# Altium footprint library Transistor.PcbLib: 45 footprints (part 3 of 3)
Each footprint in its own frame and in the unit in brackets; x right, y up, seen from the top. Pads: shape width x height; smd on the part's side, far side on the other; paste and mask are expansions set on the pad; w line width, h text height; cw(c..) or ccw(c..) is an arc to the next point about the centre after c.
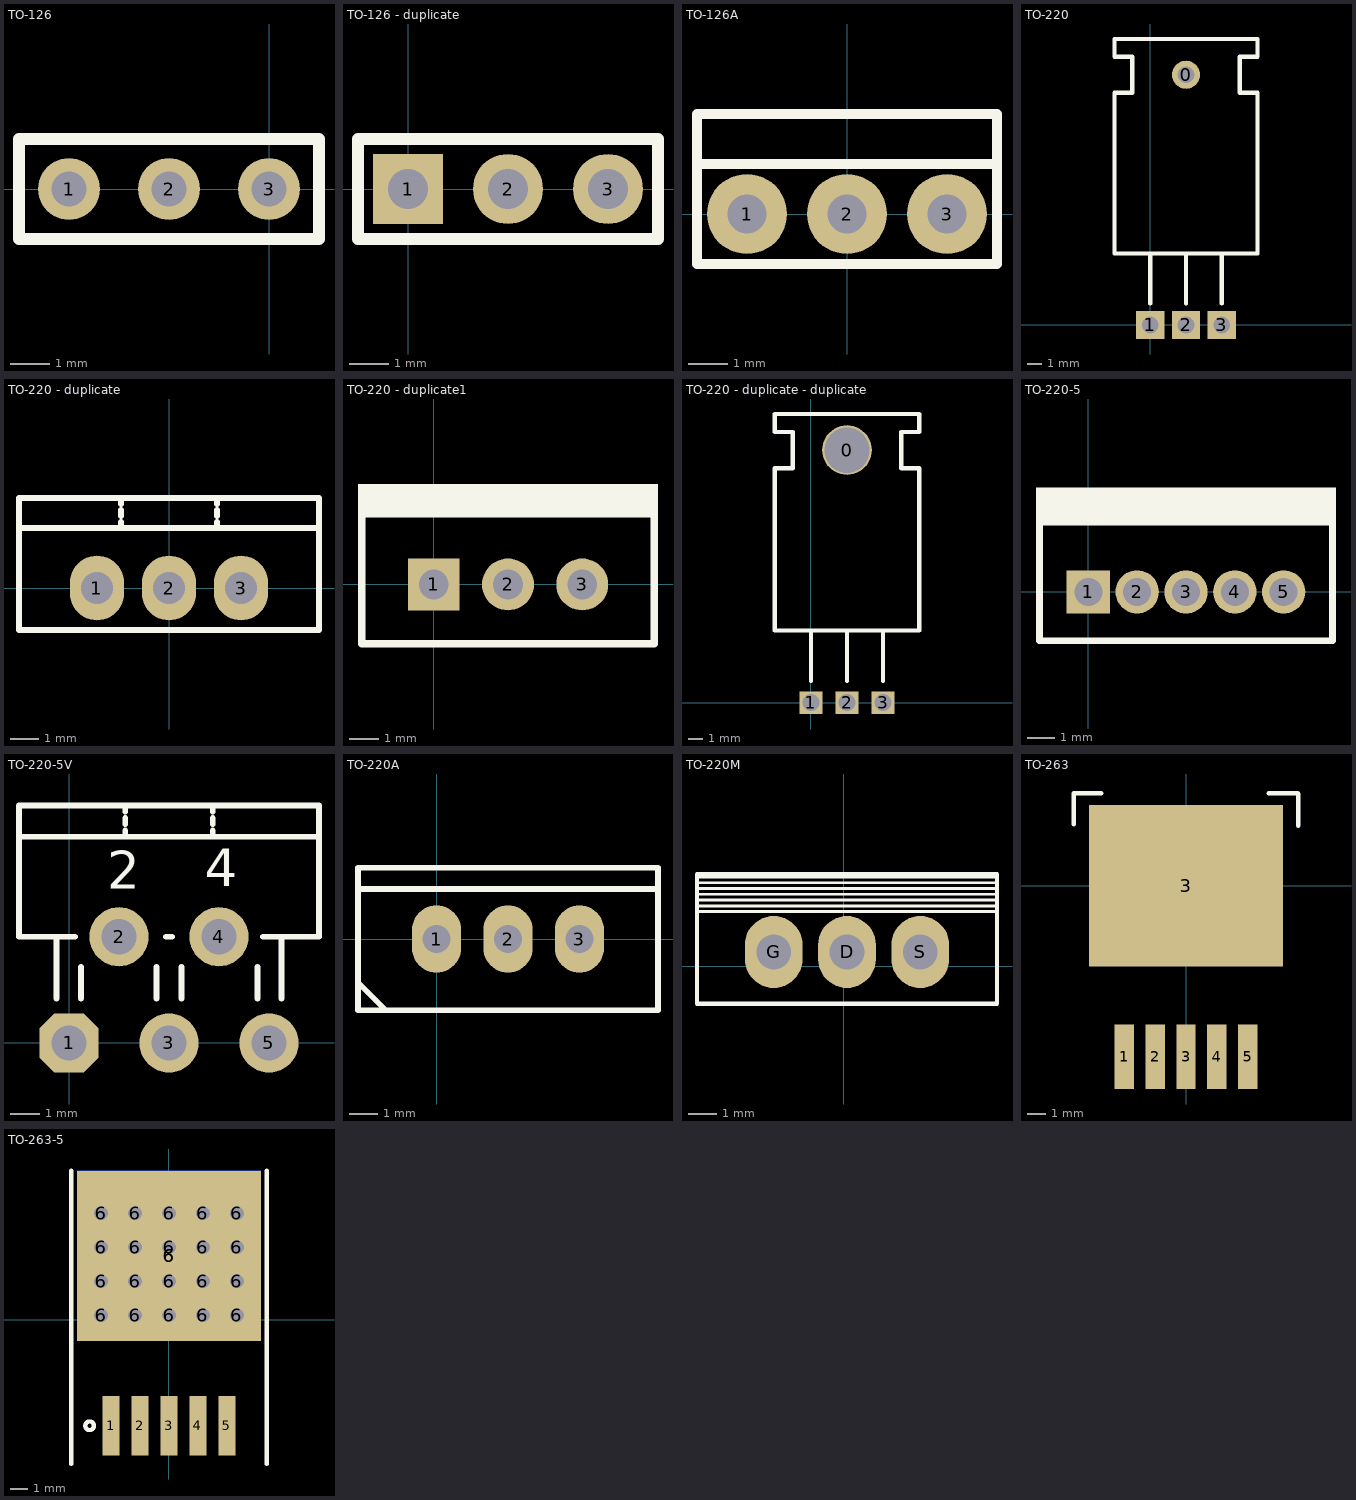
[diagram p2: the footprints below, top view; thin cyan lines are the x and y axes]

## TO-126 [mil]
pads (3):
  round 62 hole 35.43: 1(-200,0) 2(-100,0) 3(0,0)
Top Overlay:
  lines w12: -250,-50 -250,50 50,50 50,-50 -250,-50

## TO-126 - duplicate [mil]
pads (3):
  rect 70x70 hole 40: 1(0,0)
  round 70 hole 40: 2(100,0) 3(200,0)
Top Overlay:
  lines w12: -50,-50 250,-50 250,50 -50,50 -50,-50

## TO-126A [mil]
pads (3):
  round 80 hole 39: 1(-100,0) 2(0,0) 3(100,0)
Top Overlay:
  lines w10: 150,40 150,100 -150,100 -150,50 ; -150,50 150,50 150,-50 -150,-50 -150,50

## TO-220 [mm]
pads (4):
  round 2 hole 1.2: 0(2.54,17.78)
  rect 2x2 hole 1.2: 1(0,0) 2(2.54,0) 3(5.08,0)
Top Overlay:
  lines w0.305: 0,1.524 0,5.08 ; 2.54,1.524 2.54,5.08 ; 5.08,1.524 5.08,5.08 ; -2.54,5.08 -2.54,16.51 -1.27,16.51 -1.27,19.05 -2.54,19.05 -2.54,20.32 7.62,20.32 7.62,19.05 6.35,19.05 6.35,16.51 7.62,16.51 7.62,5.08 -2.54,5.08

## TO-220 - duplicate [mil]
pads (3):
  oval 75x90 hole 45: 1(-100,0) 2(0,0) 3(100,0)
Top Overlay:
  lines w7.87: -66.67,83.33 -66.67,91.67 ; -66.67,100 -66.67,108.33 ; -66.67,116.67 -66.67,125 ; 66.67,83.33 66.67,91.67 ; 66.67,100 66.67,108.33 ; 66.67,116.67 66.67,125 ; -208.33,83.33 -208.33,125 208.33,125 208.33,83.33 ; -208.33,83.33 -208.33,-58.33 208.33,-58.33 208.33,83.33 ; -208.33,83.33 208.33,83.33

## TO-220 - duplicate1 [mil]
pads (3):
  rect 70x70 hole 40: 1(0,0)
  round 70 hole 40: 2(100,0) 3(200,0)
Top Overlay:
  rectangle: -102,95 302,135
  lines w10: -97,-80 297,-80 297,95 -97,95 -97,-80

## TO-220 - duplicate - duplicate [mm]
pads (4):
  round 3.5 hole 3.2: 0(2.54,17.78)
  rect 1.6x1.6 hole 1.2: 1(0,0) 2(2.54,0) 3(5.08,0)
Top Overlay:
  lines w0.305: 0,1.524 0,5.08 ; 2.54,1.524 2.54,5.08 ; 5.08,1.524 5.08,5.08 ; -2.54,5.08 -2.54,16.51 -1.27,16.51 -1.27,19.05 -2.54,19.05 -2.54,20.32 7.62,20.32 7.62,19.05 6.35,19.05 6.35,16.51 7.62,16.51 7.62,5.08 -2.54,5.08

## TO-220-5 [mil]
pads (5):
  rect 62x62 hole 40: 1(0,0)
  round 62 hole 40: 2(70,0) 3(140,0) 4(210,0) 5(280,0)
Top Overlay:
  rectangle: -75,100 355,150
  lines w10: -70,-70 -70,100 350,100 350,-70 -70,-70

## TO-220-5V [mm]
pads (5):
  oct 2x2 hole 1.2: 1(0,0)
  round 2 hole 1.2: 2(1.693,3.598) 3(3.387,0) 4(5.08,3.598) 5(6.773,0)
Top Overlay:
  lines w0.2: -1.693,6.985 8.467,6.985 ; -0.423,1.5 -0.423,3.598 ; 0.2,3.598 -1.693,3.598 -1.693,8.043 8.467,8.043 8.467,3.598 6.573,3.598 ; 0.4,1.5 0.4,2.578 ; 1.905,6.985 1.905,7.197 ; 1.905,7.408 1.905,7.62 ; 1.905,7.832 1.905,8.043 ; 2.963,1.5 2.963,2.578 ; 3.287,3.598 3.487,3.598 ; 3.81,1.5 3.81,2.578 ; 4.868,6.985 4.868,7.197 ; 4.868,7.408 4.868,7.62 ; 4.868,7.832 4.868,8.043 ; 6.381,1.5 6.381,2.578 ; 7.197,1.5 7.197,3.598
  text "2" at 1.301,5.216 h1.27
  text "4" at 4.597,5.301 h1.27

## TO-220A [mm]
pads (3):
  oval 1.75x2.4 hole 1: 1(0,0) 2(2.54,0) 3(5.08,0)
Top Overlay:
  lines w0.2: -2.794,-1.549 -1.803,-2.54 ; -2.794,1.778 7.874,1.778 ; -2.794,-2.54 7.874,-2.54 7.874,2.54 -2.794,2.54 -2.794,-2.54

## TO-220M [mm]
pads (3):
  oval 2x2.5 hole 1.2: D(0.118,0.501) G(-2.422,0.501) S(2.658,0.501)
Top Overlay:
  lines w0.1: -5.082,2.101 5.318,2.101 ; -5.082,2.301 5.318,2.301 ; -5.082,2.501 5.318,2.501 ; -5.082,2.701 5.318,2.701 ; -5.082,2.901 5.318,2.901 ; -5.082,3.101 5.318,3.101 ; -5.082,1.901 -5.082,3.201 5.318,3.201 5.318,1.901 -5.082,1.901
  lines w0.15: -5.082,-1.299 5.318,-1.299 5.318,3.201 -5.082,3.201 -5.082,-1.299

## TO-263 [mil]
pads (6):
  rect 42x140 smd: 1(-134,-370) 2(-67,-370) 3(0,-370) 4(67,-370) 5(134,-370)
  rect 420x350 smd: 3(0,0)
Top Overlay:
  lines w10: -243,134 -243,201 -184,201 ; 179,201 242,201 243,200 243,130

## TO-263-5 [mm]
height 5
pads (27):
  rect 1x3.5 smd: 1(-3.4,-6.25) 2(-1.7,-6.25) 3(0,-6.25) 4(1.7,-6.25) 5(3.4,-6.25)
  round 1.5 hole 0.8: 6(-4,0.25) 6(-4,2.25) 6(-4,4.25) 6(-4,6.25) 6(-2,0.25) 6(-2,2.25) 6(-2,4.25) 6(-2,6.25) 6(0,0.25) 6(0,2.25) 6(0,4.25) 6(0,6.25) 6(2,0.25) 6(2,2.25) 6(2,4.25) 6(2,6.25) 6(4,0.25) 6(4,2.25) 6(4,4.25) 6(4,6.25)
  rect 10.8x10 smd: 6(0,3.75)
  rect 10.8x10 smd far side: 6(0,3.75)
Top Overlay:
  circle w0.254: c-4.67,-6.25 r0.254
  lines w0.254: -5.75,-8.5 -5.75,8.75 ; 5.75,-8.5 5.75,8.75
3D body "User Library-TO-263-5.STEP": height 4.56, standoff 0, extent -5.08,-6.5 5.08,7.515